# EAGLE library part 74LVC2G14/7 (library SyncChannelCustom)
74LVC2G14 (Dual Schmitt Inverter) or 74LVC2G17 (Dual Schmitt Buffer) Digikey: 74LVC2G14: 296-13010-1-ND 74LVC2G17: 296-13012-1-ND
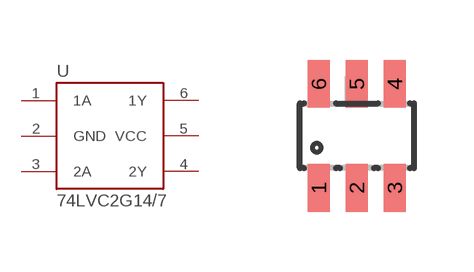
[diagram p0: symbol with the pads of SOT23-6; footprint SOT23-6]

Designator prefix U

## 74LVC2G14/7  [SOT23-6]
1  1A
2  GND
3  2A
4  2Y
5  VCC
6  1Y

## Footprint SOT23-6 (pad centres in mm)
smd 0.55 x 1.2: 1 -0.95,-1.3; 2 0,-1.3; 3 0.95,-1.3; 4 0.95,1.3; 5 0,1.3; 6 -0.95,1.3